# Altium schematic symbol library NXP TVS Diodes.SchLib: 1 symbol
Pins are listed as number, name and electrical type; pins without a type are passive.

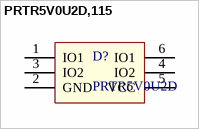
[diagram p0: symbol PRTR5V0U2D,115]

## PRTR5V0U2D,115
designator D?, comment PRTR5V0U2D
footprint SOT457 (SOT-457, SC-74, SC74, 6-TSOP)
pins: 1 IO1, 2 GND, 3 IO2, 4 IO2, 5 VCC, 6 IO1